# Altium footprint library AZ.PcbLib: 1 footprints
Each footprint in its own frame and in the unit in brackets; x right, y up, seen from the top. Pads: shape width x height; smd on the part's side, far side on the other; paste and mask are expansions set on the pad; w line width, h text height; cw(c..) or ccw(c..) is an arc to the next point about the centre after c.
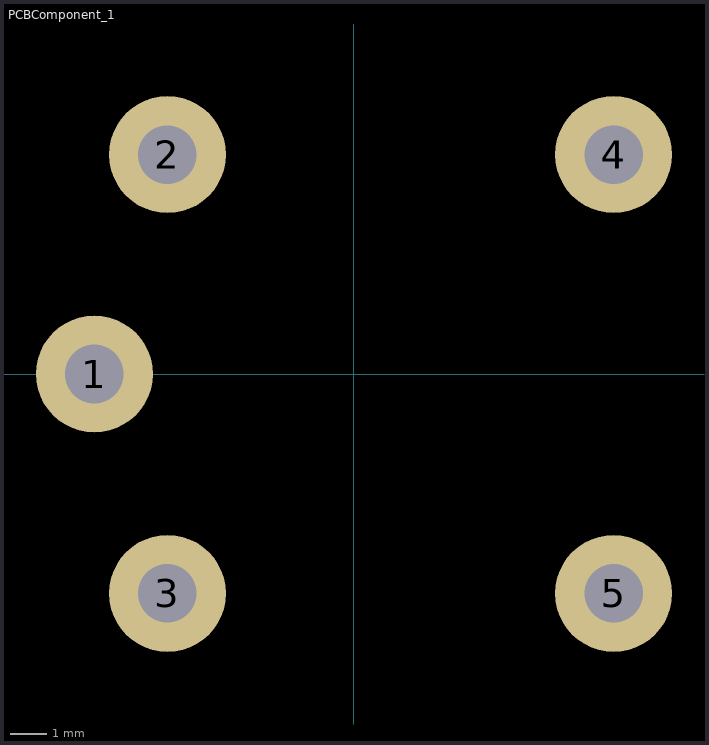
[diagram p0: the footprint, top view; thin cyan lines are the x and y axes]

## PCBComponent_1 [mm]
pads (5):
  round 3.2 hole 1.6: 1(-7.1,0) 2(-5.1,6) 3(-5.1,-6) 4(7.1,6) 5(7.1,-6)
3D body "User Library-833H-1C-C-12VDC.step": height 16, standoff -3, extent -8.7,-7.75 10.3,7.75